# Altium schematic symbol library SCH_GasSensor.SchLib: 34 symbols
Pins are listed as number, name and electrical type; pins without a type are passive.

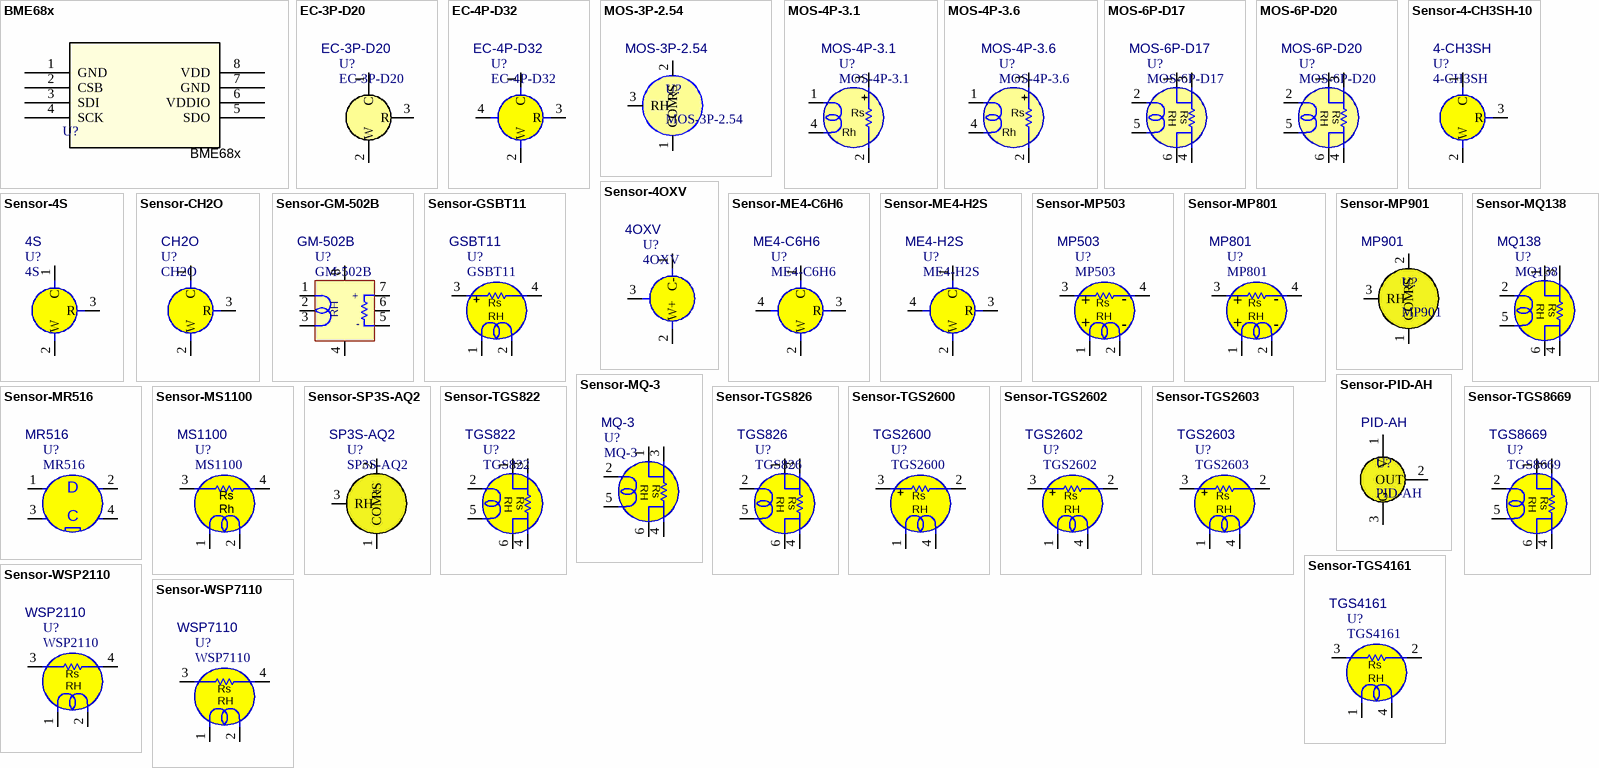
[diagram p0: symbols BME68x to Sensor-WSP7110]

## BME68x
designator U?
Bosch Gas Sensor; MFR: Bosch Sensortec; Package: LGA8; PartNumber: BME68x
footprint LGA8_BME680_BOS
pins: 1 GND, 2 CSB, 3 SDI, 4 SCK, 5 SDO, 6 VDDIO, 7 GND, 8 VDD

## EC-3P-D20
designator U?
2极电化学传感器; Package: EC-3P-D20; MFR: ?; PartNumber: EC-3P-D20
footprint EC_3P_D20
pins: 1 C, 2 W, 3 R

## EC-4P-D32
designator U?
3极电化学传感器; MFR: ?; Package: EC-4P-D32; PartNumber: EC-4P-D32
footprint EC_4P_ME4_D32
pins: 1 C, 2 W, 3 R, 4

## MOS-3P-2.54
designator U?
金属氧化物传感器; MFR: MFR; Package: MOS-3P-2.54; PartNumber: MOS-3P-2.54
footprint MOS_3P_2.54
pins: 1 COM+, 2 RS, 3 RH

## MOS-4P-3.1
designator U?
金属氧化物传感器; MFR: MFR; Package: MOS-4P-3.1; PartNumber: MOS-4P-3.1
footprint MOS_4P_TO5_3.1
pins: 1 V, 2 H, 3 V, 4 O
text: +; Rs; Rh

## MOS-4P-3.6
designator U?
金属氧化物传感器; MFR: MFR; Package: MOS-4P-3.6; PartNumber: MOS-4P-3.6
footprint MOS_4P_TO5_3.6
pins: 1 V, 2 H, 3 V, 4 O
text: +; Rs; Rh

## MOS-6P-D17
designator U?
金属氧化物传感器; MFR: MFR; Package: MOS-6P-D17; PartNumber: MOS-6P-D17
footprint MOS_6P_D17
pins: 1, 2, 3, 4, 5, 6
text: RH; Rs

## MOS-6P-D20
designator U?
金属氧化物传感器; MFR: MFR; Package: MOS-6P-D20; PartNumber: MOS-6P-D20
footprint MOS_6P_D20
pins: 1, 2, 3, 4, 5, 6
text: RH; Rs

## Sensor-4-CH3SH-10
designator U?, comment 4-CH3SH
3极电化学传感器; MFR: 德国速丽德; Package: 4-CH3SH; PartNumber: 4-CH3SH
footprint 4-CH3SH-10
pins: 1 C, 2 W, 3 R

## Sensor-4OXV
designator U?, comment 4OXV
2极电化学传感器; MFR: 英国citicel; Package: 4OXV; PartNumber: 4OXV
footprint 4OXV
pins: 1 C-, 2 W+, 3

## Sensor-4S
designator U?, comment 4S
3极电化学传感器; MFR: 英国citicel; Package: 4S; PartNumber: 4S
footprint 4S
pins: 1 C, 2 W, 3 R

## Sensor-CH2O
designator U?, comment CH2O
3极电化学传感器; MFR: 瑞士Membrapor; Package: CH2O; PartNumber: CH2O
footprint CH2O
pins: 1 C, 2 W, 3 R

## Sensor-GM-502B
designator U?, comment GM-502B
金属氧化物传感器; MFR: 郑州炜盛科技有限公司; Package: GM-502B; PartNumber: GM-502B
footprint GM-502B (QFN, 8-Leads, Body 5.0x5.0mm (max), Pitch 1.27mm, IPC Medium Density)
pins: 1, 2, 3, 4, 5, 6, 7, 8
text: +; RH; -

## Sensor-GSBT11
designator U?, comment GSBT11
金属氧化物传感器; MFR: Ogam; Package: GSBT11; PartNumber: GSBT11
footprint GSBT11
pins: 1 V, 2 O, 3 V, 4 H
text: +; Rs; RH

## Sensor-ME4-C6H6
designator U?, comment ME4-C6H6
3极电化学传感器; MFR: 郑州炜盛科技有限公司; Package: ME4-C6H6; PartNumber: ME4-C6H6
footprint ME4-C6H6
pins: 1 C, 2 W, 3 R, 4

## Sensor-ME4-H2S
designator U?, comment ME4-H2S
3极电化学传感器; MFR: 郑州炜盛科技有限公司; Package: ME4-H2S; PartNumber: ME4-H2S
footprint ME4-H2S
pins: 1 C, 2 W, 3 R, 4

## Sensor-MP503
designator U?, comment MP503
金属氧化物传感器; MFR: 郑州炜盛科技有限公司; Package: MP503; PartNumber: MP503
footprint MP801
pins: 1, 2, 3, 4
text: +; Rs; -; RH

## Sensor-MP801
designator U?, comment MP801
金属氧化物传感器; MFR: 郑州炜盛科技有限公司; Package: MP801; PartNumber: MP801
footprint MP801
pins: 1, 2, 3, 4
text: +; Rs; -; RH

## Sensor-MP901
designator U?, comment MP901
金属氧化物传感器; MFR: 郑州炜盛科技有限公司; Package: MP901; PartNumber: MP901
footprint MP901
pins: 1 COM+, 2 RS, 3 RH

## Sensor-MQ138
designator U?, comment MQ138
金属氧化物传感器; MFR: 郑州炜盛科技有限公司; Package: MQ138; PartNumber: MQ138
footprint MQ-138
pins: 1, 2, 3, 4, 5, 6
text: RH; Rs

## Sensor-MQ-3
designator U?, comment MQ-3
金属氧化物传感器; MFR: 郑州炜盛科技有限公司; Package: MQ-3; PartNumber: MQ-3
footprint MQ-3
pins: 1, 2, 3, 4, 5, 6
text: RH; Rs

## Sensor-MR516
designator U?, comment MR516
热线型传感器; MFR: 郑州炜盛科技有限公司; Package: MR516; PartNumber: MR516
footprint MR516
pins: 1 V, 2 H, 3 V, 4 O
text: D; C

## Sensor-MS1100
designator U?, comment MS1100
金属氧化物传感器; MFR: 韩国Ogam; Package: MS1100; PartNumber: MS1100
footprint MS1100
pins: 1 V, 2 H, 3 V, 4 O
text: Rs; Rh

## Sensor-PID-AH
designator U?, comment PID-AH
光离子传感器; MFR: 深圳市新世联科技有限公司; Package: PID-AH; PartNumber: PID-AH
footprint PID-AH
pins: 1 V, 2 OUT, 3 G

## Sensor-SP3S-AQ2
designator U?, comment SP3S-AQ2
金属氧化物传感器; MFR: FIS(日本); Package: SP3S-AQ2; PartNumber: SP3S-AQ2
footprint SP3S-AQ2
pins: 1 COM+, 2 RS, 3 RH

## Sensor-TGS822
designator U?, comment TGS822
金属氧化物传感器; MFR: 日本费加罗Figaro; Package: TGS822; PartNumber: TGS822
footprint TGS822
pins: 1, 2, 3, 4, 5, 6
text: RH; Rs

## Sensor-TGS826
designator U?, comment TGS826
金属氧化物传感器; MFR: 日本费加罗Figaro; Package: TGS826; PartNumber: TGS826
footprint TGS826
pins: 1, 2, 3, 4, 5, 6
text: RH; Rs

## Sensor-TGS2600
designator U?, comment TGS2600
金属氧化物传感器; MFR: 日本费加罗Figaro; Package: TGS2600; PartNumber: TGS2600
footprint TGS2600
pins: 1 V, 2 H, 3 V, 4 O
text: +; Rs; RH

## Sensor-TGS2602
designator U?, comment TGS2602
金属氧化物传感器; MFR: 日本费加罗Figaro; PartNumber: TGS2602
footprint TGS2602
pins: 1 V, 2 H, 3 V, 4 O
text: +; Rs; RH

## Sensor-TGS2603
designator U?, comment TGS2603
金属氧化物传感器; MFR: 日本费加罗Figaro; PartNumber: TGS2603
footprint TGS2602
pins: 1 V, 2 H, 3 V, 4 O
text: +; Rs; RH

## Sensor-TGS4161
designator U?, comment TGS4161
金属氧化物传感器; MFR: 日本费加罗Figaro; Package: TGS4161; PartNumber: TGS4161
footprint TGS4146
pins: 1 V, 2 H, 3 V, 4 O
text: Rs; RH

## Sensor-TGS8669
designator U?, comment TGS8669
金属氧化物传感器; MFR: 安捷达; Package: TGS8669; PartNumber: TGS8669
footprint TGS8669
pins: 1, 2, 3, 4, 5, 6
text: RH; Rs

## Sensor-WSP2110
designator U?, comment WSP2110
金属氧化物传感器; MFR: 郑州炜盛科技; Package: WSP2110; PartNumber: WSP2110
footprint WSP2110
pins: 1, 2, 3, 4
text: Rs; RH

## Sensor-WSP7110
designator U?, comment WSP7110
金属氧化物传感器; MFR: 郑州炜盛科技有限公司; Package: WSP7110; PartNumber: WSP7110
footprint MP801
pins: 1, 2, 3, 4
text: Rs; RH